# Altium schematic symbol library SCH - POWER - LINEAR VREG - TI TPS70348PWP.SchLib: 1 symbol
Pins are listed as number, name and electrical type; pins without a type are passive.

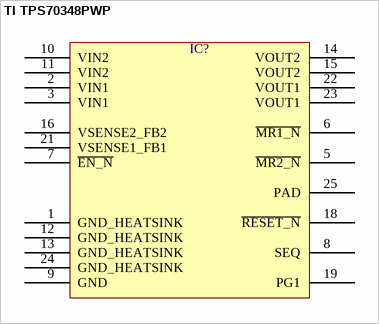
[diagram p0: symbol TI TPS70348PWP]

## TI TPS70348PWP
designator IC?  (value not drawn)
pins: 1 GND_HEATSINK, 2 VIN1, 3 VIN1, 5 ~{MR2_N}, 6 ~{MR1_N}, 7 ~{EN_N}, 8 SEQ, 9 GND, 10 VIN2, 11 VIN2, 12 GND_HEATSINK, 13 GND_HEATSINK, 14 VOUT2, 15 VOUT2, 16 VSENSE2_FB2, 18 ~{RESET_N}, 19 PG1, 21 VSENSE1_FB1, 22 VOUT1, 23 VOUT1, 24 GND_HEATSINK, 25 PAD